# Altium schematic symbol library Adam home.SchLib: 216 symbols (part 2 of 2)
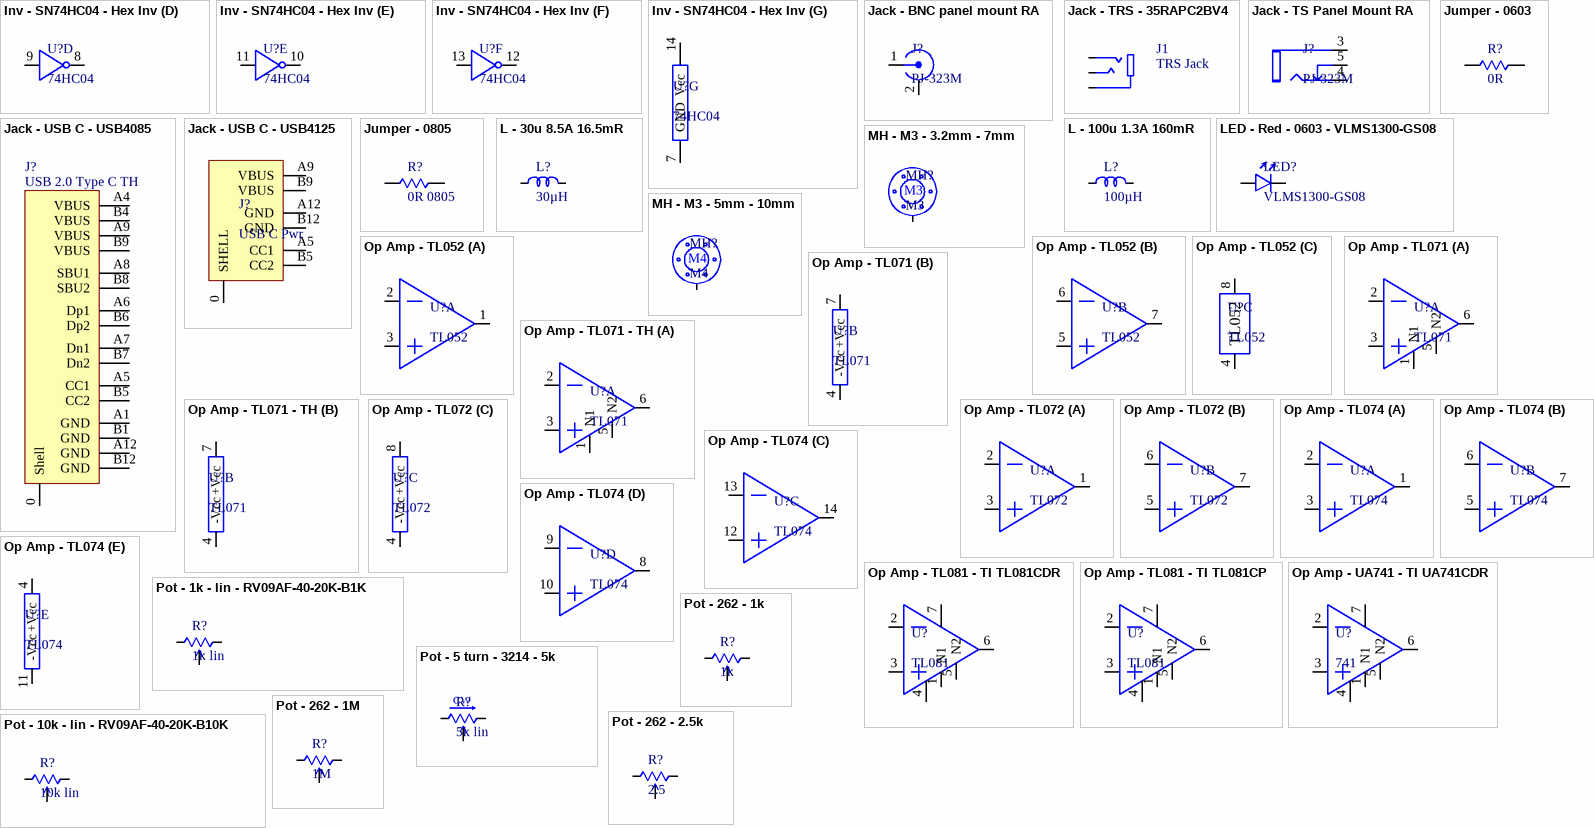
[diagram p7: symbols Inv - SN74HC04 - Hex Inv to Pot - 262 - 2.5k]

## Op Amp - TL071 - TH
designator U?, comment TL071
IC OPAMP JFET 3MHZ 8DIP; MFG: TI; MFG PN: TL071CP; Supplier: DigiKey; Supplier PN: 296-7186-5-ND; ComponentLink2Description: Datasheet; ComponentLink2URL: http://www.ti.com/lit/ds/symlink/tl071a.pdf; ComponentLink1Description: DigiKey; ComponentLink1URL: https://www.digikey.ca/en/products/detail/texas-instruments/TL071CP/378372
footprint DIP8 - SOCKET
part A pins: 1 N1, 2, 3, 5 N2, 6
part B pins: 4 -Vcc, 7 +Vcc

## Op Amp - TL072
designator U?, comment TL072
IC OPAMP JFET 3MHZ 8SOIC; MFG: TI; MFG PN: TL072CDR; Supplier: DigiKey; Supplier PN: 296-1282-1-ND; ComponentLink1Description: DigiKey; ComponentLink1URL: https://www.digikey.ca/en/products/detail/texas-instruments/TL072CDR/276925
footprint TI - D (R-PDSO-G8) (http://www.ti.com/lit/ml/mpds348/mpds348.pdf)
part A pins: 1, 2, 3
part B pins: 5, 6, 7
part C pins: 4 -Vcc, 8 +Vcc

## Op Amp - TL074
designator U?, comment TL074
IC OPAMP JFET 4 CIRCUIT 14SOIC; MFG: TI; MFG PN: TL074CDR; Supplier: DigiKey; Supplier PN: 296-1283-1-ND; ComponentLink1Description: DigiKey; ComponentLink1URL: https://www.digikey.ca/en/products/detail/texas-instruments/TL074CDR/276926
footprint TI - D (R-PDSO-G14)
part A pins: 1, 2, 3
part B pins: 5, 6, 7
part C pins: 12, 13, 14
part D pins: 8, 9, 10
part E pins: 4 +Vcc, 11 -Vcc

## Op Amp - TL081 - TI TL081CDR
designator U?, comment TL081
IC OPAMP JFET 3MHZ 8SOIC; MFG: TI; MFG PN: TL081CDR; Supplier: DigiKey; Supplier PN: 296-15001-1-ND; ComponentLink1Description: DigiKey; ComponentLink1URL: https://www.digikey.ca/en/products/detail/texas-instruments/TL081CDR/562841
pins: 1 N1, 2, 3, 4, 5 N2, 6, 7

## Op Amp - TL081 - TI TL081CP
designator U?, comment TL081
IC OPAMP JFET 3MHZ 8DIP; MFG: TI; MFG PN: TL081CP; Supplier: DigiKey; Supplier PN: 296-7203-5-ND; ComponentLink1Description: DigiKey; ComponentLink1URL: https://www.digikey.ca/en/products/detail/texas-instruments/TL081CP/383030
pins: 1 N1, 2, 3, 4, 5 N2, 6, 7

## Op Amp - UA741 - TI UA741CDR
designator U?, comment 741
IC OPAMP GP 1MHZ 8SOIC; MFG: TI; MFG PN: UA741CDR; Supplier: DigiKey; Supplier PN: 296-15051-1-ND; ComponentLink1Description: DigiKey; ComponentLink1URL: https://www.digikey.ca/en/products/detail/texas-instruments/UA741CDR/562828
footprint TI - D (R-PDSO-G8) (http://www.ti.com/lit/ml/mpds348/mpds348.pdf)
pins: 1 N1, 2, 3, 4, 5 N2, 6, 7

## Pot - 1k - lin - RV09AF-40-20K-B1K
designator R?, comment 1k lin
POT 1K OHM ?W PLASTIC LINEAR; MFG: ALPHA; MFG PN: RV09AF-40-20K-B1K; Supplier: Tayda; Supplier PN: A-1863; ComponentLink1Description: Tayda; ComponentLink1URL: https://www.taydaelectronics.com/1k-ohm-linear-taper-potentiometer-round-knurled-plastic-shaft-pcb-9mm.html
pins: 1, 2, 3

## Pot - 5 turn - 3214 - 5k
designator R?, comment 5k lin
TRIMMER 5K OHM 0.25W J LEAD TOP; MFG: Bourns Inc.; MFG PN: 3214W-1-502E; Supplier: DigiKey; Supplier PN: 3214W-502ECT-ND; ComponentLink1Description: DigiKey; ComponentLink1URL: https://www.digikey.ca/en/products/detail/bourns-inc/3214W-1-502E/248430; ComponentLink2Description: Datasheet; ComponentLink2URL: https://www.bourns.com/docs/Product-Datasheets/3214.pdf
footprint POT - Bourns - 3214W (3214W-502ECT-ND)
pins: 1, 2, 3
text: CW

## Pot - 10k - lin - RV09AF-40-20K-B10K
designator R?, comment 10k lin
POT 10K OHM ?W PLASTIC LINEAR; MFG: ALPHA; MFG PN: RV09AF-40-20K-B10K; Supplier: Tayda; Supplier PN: A-1850; ComponentLink1Description: Tayda; ComponentLink1URL: https://www.taydaelectronics.com/10k-ohm-linear-taper-potentiometer-round-knurled-plastic-shaft-pcb-9mm.html
pins: 1, 2, 3

## Pot - 262 - 1k
designator R?, comment 1k
TRIMMER 1K OHM 0.15W TH; MFG: CTS Electrocomponents; MFG PN: 262UR102B; Supplier: DigiKey; Supplier PN: 262UR102B-ND
footprint POT - CTS - 262 Series (CTS Electrocomponents)
pins: 1, 2, 3

## Pot - 262 - 1M
designator R?, comment 1M
TRIMMER 1M OHM 0.15W TH; MFG: CTS Electrocomponents; MFG PN: 262UR105B; Supplier: DigiKey; Supplier PN: 262UR105B-ND
footprint POT - CTS - 262 Series (CTS Electrocomponents)
pins: 1, 2, 3

## Pot - 262 - 2.5k
designator R?, comment 2.5
TRIMMER 2.5K OHM 0.15W TH; MFG: CTS Electrocomponents; MFG PN: 262UR252B; Supplier: DigiKey; Supplier PN: 262UR252B-ND
footprint POT - CTS - 262 Series (CTS Electrocomponents)
pins: 1, 2, 3

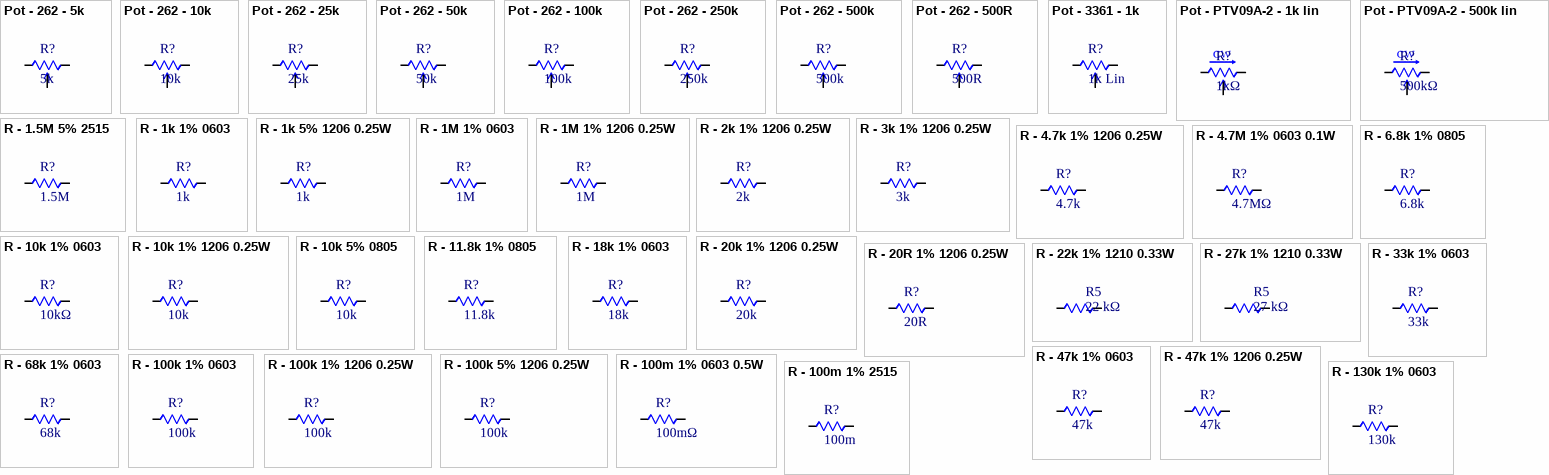
[diagram p4: symbols Pot - 262 - 5k to R - 130k 1% 0603]

## Pot - 262 - 5k
designator R?, comment 5k
TRIMMER 5K OHM 0.15W TH; MFG: CTS Electrocomponents; MFG PN: 262UR502B; Supplier: DigiKey; Supplier PN: 262UR502B-ND
footprint POT - CTS - 262 Series (CTS Electrocomponents)
pins: 1, 2, 3

## Pot - 262 - 10k
designator R?, comment 10k
TRIMMER 10K OHM 0.15W TH; MFG: CTS Electrocomponents; MFG PN: 262UR103B; Supplier: DigiKey; Supplier PN: 262UR103B-ND
footprint POT - CTS - 262 Series (CTS Electrocomponents)
pins: 1, 2, 3

## Pot - 262 - 25k
designator R?, comment 25k
TRIMMER 25K OHM 0.15W TH; MFG: CTS Electrocomponents; MFG PN: 262UR253B; Supplier: DigiKey; Supplier PN: 262UR253B-ND
footprint POT - CTS - 262 Series (CTS Electrocomponents)
pins: 1, 2, 3

## Pot - 262 - 50k
designator R?, comment 50k
TRIMMER 50K OHM 0.15W TH; MFG: CTS Electrocomponents; MFG PN: 262UR503B; Supplier: DigiKey; Supplier PN: 262UR503B-ND
footprint POT - CTS - 262 Series (CTS Electrocomponents)
pins: 1, 2, 3

## Pot - 262 - 100k
designator R?, comment 100k
TRIMMER 100K OHM 0.15W TH; MFG: CTS Electrocomponents; MFG PN: 262UR104B; Supplier: DigiKey; Supplier PN: 262UR104B-ND
footprint POT - CTS - 262 Series (CTS Electrocomponents)
pins: 1, 2, 3

## Pot - 262 - 250k
designator R?, comment 250k
TRIMMER 250K OHM 0.15W TH; MFG: CTS Electrocomponents; MFG PN: 262UR254B; Supplier: DigiKey; Supplier PN: 262UR254B-ND
footprint POT - CTS - 262 Series (CTS Electrocomponents)
pins: 1, 2, 3

## Pot - 262 - 500k
designator R?, comment 500k
TRIMMER 500K OHM 0.15W TH; MFG: CTS Electrocomponents; MFG PN: 262UR504B; Supplier: DigiKey; Supplier PN: 262UR504B-ND
footprint POT - CTS - 262 Series (CTS Electrocomponents)
pins: 1, 2, 3

## Pot - 262 - 500R
designator R?, comment 500R
TRIMMER 500 OHM 0.15W TH; MFG: CTS Electrocomponents; MFG PN: 262UR501B; Supplier: DigiKey; Supplier PN: 262UR501B-ND
footprint POT - CTS - 262 Series (CTS Electrocomponents)
pins: 1, 2, 3

## Pot - 3361 - 1k
designator R?, comment 1k Lin
TRIMMER 1K OHM 0.5W GW TOP ADJ; MFG: Bourns Inc.; MFG PN: 3361P-1-102GLF; ComponentLink1Description: DigiKey; ComponentLink1URL: https://www.digikey.ca/en/products/detail/bourns-inc/3361P-1-102GLF/1088367; ComponentLink2Description: Datasheet; ComponentLink2URL: https://www.bourns.com/docs/Product-Datasheets/3361.pdf; Supplier: DigiKey; Supplier PN: 3361P-102GLFCT-ND
footprint POT - 3361P Series
pins: 1, 2, 3

## Pot - PTV09A-2 - 1k lin
designator R?, comment 1kΩ
POT 1K OHM 1/20W CARBON LINEAR; MFG: Bourns Inc.; MFG PN: PTV09A-2020U-B102; Supplier: DigiKey; Supplier PN: PTV09A-2020U-B102-ND; ComponentLink2Description: Datasheet; ComponentLink2URL: https://www.mouser.ca/datasheet/2/54/ptv09-777818.pdf; ComponentLink1Description: DigiKey; ComponentLink1URL: https://www.digikey.ca/en/products/detail/bourns-inc/PTV09A-2020U-B102/7314961
pins: 1, 2, 3
text: CW

## Pot - PTV09A-2 - 500k lin
designator R?, comment 500kΩ
POT 500K OHM 1/20W CARBON LINEAR; MFG: Bourns Inc.; MFG PN: PTV09A-2020F-B504; Supplier: DigiKey; Supplier PN: PTV09A-2020F-B504-ND; ComponentLink2Description: Datasheet; ComponentLink2URL: https://www.mouser.ca/datasheet/2/54/ptv09-777818.pdf; ComponentLink1Description: DigiKey; ComponentLink1URL: https://www.digikey.ca/en/products/detail/bourns-inc/PTV09A-2020F-B504/6153481
pins: 1, 2, 3
text: CW

## R - 1.5M 5% 2515
designator R?, comment 1.5M
RES SMD 1.5M OHM 5% 1W 2512; MFG: Panasonic; MFG PN: ERJ-1TYJ155U; Supplier: DigiKey; Supplier PN: PT1.5MXCT-ND
pins: 1, 2

## R - 1k 1% 0603
designator R?, comment 1k
RES SMD 1K OHM 1% 1/10W 0603; MFG: Yageo; MFG PN: RC0603FR-071KL; Supplier: DigiKey; Supplier PN: 311-1.00KHRCT-ND
footprint R0603
pins: 1, 2

## R - 1k 5% 1206 0.25W
designator R?, comment 1k
RES SMD 1K OHM 5% 1/4W 1206; MFG: Yageo; MFG PN: RC1206JR-071KL; Supplier: DigiKey; Supplier PN: 311-1.0KERCT-ND
footprint R1206
pins: 1, 2

## R - 1M 1% 0603
designator R?, comment 1M
RES SMD 1M OHM 1% 1/10W 0603; MFG: Yageo; MFG PN: RC0603FR-071ML; Supplier: DigiKey; Supplier PN: 311-1.00MHRCT-ND
footprint R0603
pins: 1, 2

## R - 1M 1% 1206 0.25W
designator R?, comment 1M
RES SMD 1M OHM 1% 1/4W 1206; MFG: Yageo; MFG PN: RC1206FR-071ML; Supplier: DigiKey; Supplier PN: 311-1.00MFRCT-ND
footprint R1206
pins: 1, 2

## R - 2k 1% 1206 0.25W
designator R?, comment 2k
RES SMD 2K OHM 1% 1/4W 1206; MFG: Yageo; MFG PN: RC1206FR-072KL; Supplier: DigiKey; Supplier PN: 311-2.00KFRCT-ND
footprint R1206
pins: 1, 2

## R - 3k 1% 1206 0.25W
designator R?, comment 3k
RES SMD 3K OHM 1% 1/4W 1206; MFG: Yageo; MFG PN: RC1206FR-073KL; Supplier: DigiKey; Supplier PN: 311-3.00KFRCT-ND
footprint R1206
pins: 1, 2

## R - 4.7k 1% 1206 0.25W
designator R?, comment 4.7k
RES SMD 4.7K OHM 1% 1/4W 1206; MFG: Yageo; MFG PN: RC1206FR-074K7L; Supplier: DigiKey; Supplier PN: 311-4.70KFRCT-ND
footprint R1206
pins: 1, 2

## R - 4.7M 1% 0603 0.1W
designator R?, comment 4.7MΩ
RES 4.7M OHM 1% 1/10W 0603; MFG: YAGEO; MFG PN: RC0603FR-074M7L; Supplier: DigiKey; Supplier PN: 311-4.70MHRCT-ND
footprint R0603
pins: 1, 2

## R - 6.8k 1% 0805
designator R?, comment 6.8k
RES SMD 6.8K OHM 1% 1/8W 0805; MFG: Yageo; MFG PN: 311-6.80KCRCT-ND; Supplier: DigiKey; Supplier PN: 311-6.80KCRCT-ND
footprint R0805
pins: 1, 2

## R - 10k 1% 0603
designator R?, comment 10kΩ
RES 10K OHM 1% 1/10W 0603; MFG: Yageo; MFG PN: RC0603FR-0710KL; Supplier: DigiKey; Supplier PN: 311-10.0KHRCT-ND
footprint R0603
pins: 1, 2

## R - 10k 1% 1206 0.25W
designator R?, comment 10k
RES SMD 10K OHM 1% 1/4W 1206; MFG: Yageo; MFG PN: RC1206FR-0710KL; Supplier: DigiKey; Supplier PN: 311-10.0KFRCT-ND
footprint R1206
pins: 1, 2

## R - 10k 5% 0805
designator R?, comment 10k
RES SMD 10K OHM 5% 1/8W 0805; MFG: Yageo; MFG PN: RC0805JR-0710KL; Supplier: DigiKey; Supplier PN: 311-10KARCT-ND
footprint R0805
pins: 1, 2

## R - 11.8k 1% 0805
designator R?, comment 11.8k
RES SMD 11.8K OHM 1% 1/8W 0805; MFG: Yageo; MFG PN: RC0805FR-0711K8L; Supplier: DigiKey; Supplier PN: 311-11.8KCRCT-ND
footprint R0805
pins: 1, 2

## R - 18k 1% 0603
designator R?, comment 18k
RES SMD 18K OHM 1% 1/10W 0603; MFG: RC0603FR-0718KL; MFG PN: Yageo; Supplier: DigiKey; Supplier PN: 311-18.0KHRCT-ND
footprint R0603
pins: 1, 2

## R - 20k 1% 1206 0.25W
designator R?, comment 20k
RES SMD 20K OHM 1% 1/4W 1206; MFG: Yageo; MFG PN: RC1206FR-0720KL; Supplier: DigiKey; Supplier PN: 311-20.0KFRCT-ND
footprint R1206
pins: 1, 2

## R - 20R 1% 1206 0.25W
designator R?, comment 20R
RES SMD 20 OHM 1% 1/4W 1206; MFG: Yageo; MFG PN: RC1206FR-0720RL; Supplier: DigiKey; Supplier PN: 311-20.0FRCT-ND
footprint R1206
pins: 1, 2

## R - 22k 1% 1210 0.33W
designator R5, comment 22 kΩ
RES SMD 22K OHM 1% 1/3W 1210; MFG: Rohm Semi; MFG PN: KTR25JZPF2202; Supplier: DigiKey; Supplier PN: RHM1094CT-ND
pins: 1, 2

## R - 27k 1% 1210 0.33W
designator R5, comment 27 kΩ
RES SMD 27K OHM 1% 1/3W 1210; MFG: Rohm Semi; MFG PN: KTR25JZPF2702; Supplier: DigiKey; Supplier PN: RHM1106CT-ND
pins: 1, 2

## R - 33k 1% 0603
designator R?, comment 33k
RES SMD 33K OHM 1% 1/10W 0603; MFG: RC0603FR-0733KL; MFG PN: Yageo; Supplier: DigiKey; Supplier PN: 311-33.0KHRCT-ND
footprint R0603
pins: 1, 2

## R - 47k 1% 0603
designator R?, comment 47k
RES SMD 47K OHM 1% 1/10W 0603; MFG: Yageo; MFG PN: RC0603FR-0747KL; Supplier: DigiKey; Supplier PN: 311-47.0KHRCT-ND
footprint R0603
pins: 1, 2

## R - 47k 1% 1206 0.25W
designator R?, comment 47k
RES SMD 47K OHM 1% 1/4W 1206; MFG: Yageo; MFG PN: RC1206FR-0747KL; Supplier: DigiKey; Supplier PN: 311-47.0KFRCT-ND
footprint R1206
pins: 1, 2

## R - 68k 1% 0603
designator R?, comment 68k
RES SMD 68K OHM 1% 1/10W 0603; MFG: RC0603FR-0768KL; MFG PN: Yageo; Supplier: DigiKey; Supplier PN: 311-68.0KHRCT-ND; ComponentLink1Description: DigiKey; ComponentLink1URL: https://www.digikey.ca/en/products/detail/yageo/RC0603FR-0768KL/727352
footprint R0603
pins: 1, 2

## R - 100k 1% 0603
designator R?, comment 100k
RES SMD 100K OHM 1% 1/10W 0603; MFG: Yageo; MFG PN: RC0603FR-07100KL; Supplier: DigiKey; Supplier PN: 311-100KHRCT-ND
footprint R0603
pins: 1, 2

## R - 100k 1% 1206 0.25W
designator R?, comment 100k
RES SMD 100K OHM 1% 1/4W 1206; MFG: Yageo; MFG PN: RC1206FR-07100KL; Supplier: DigiKey; Supplier PN: 311-100KFRCT-ND
footprint R1206
pins: 1, 2

## R - 100k 5% 1206 0.25W
designator R?, comment 100k
RES SMD 100K OHM 5% 1/4W 1206; MFG: Yageo; MFG PN: RC1206JR-07100KL; Supplier: DigiKey; Supplier PN: 311-100KERCT-ND
footprint R1206
pins: 1, 2

## R - 100m 1% 0603 0.5W
designator R?, comment 100mΩ
RES 0.1 OHM 1% 1/2W 0805; MFG: Panasonic; MFG PN: ERJ-6DSFR10V; Supplier: DigiKey; Supplier PN: P19308CT-ND
footprint R0603
pins: 1, 2

## R - 100m 1% 2515
designator R?, comment 100m
RES 0.1 OHM 1% 1W 2512; MFG: Panasonic; MFG PN: ERJ-L1WKF10CU; Supplier: DigiKey; Supplier PN: P100MCT-ND
footprint R2512
pins: 1, 2

## R - 130k 1% 0603
designator R?, comment 130k
RES SMD 130K OHM 1% 1/10W 0603; MFG: Yageo; MFG PN: RC0603FR-07130KL; Supplier: DigiKey; Supplier PN: 311-130KHRCT-ND
footprint R0603
pins: 1, 2

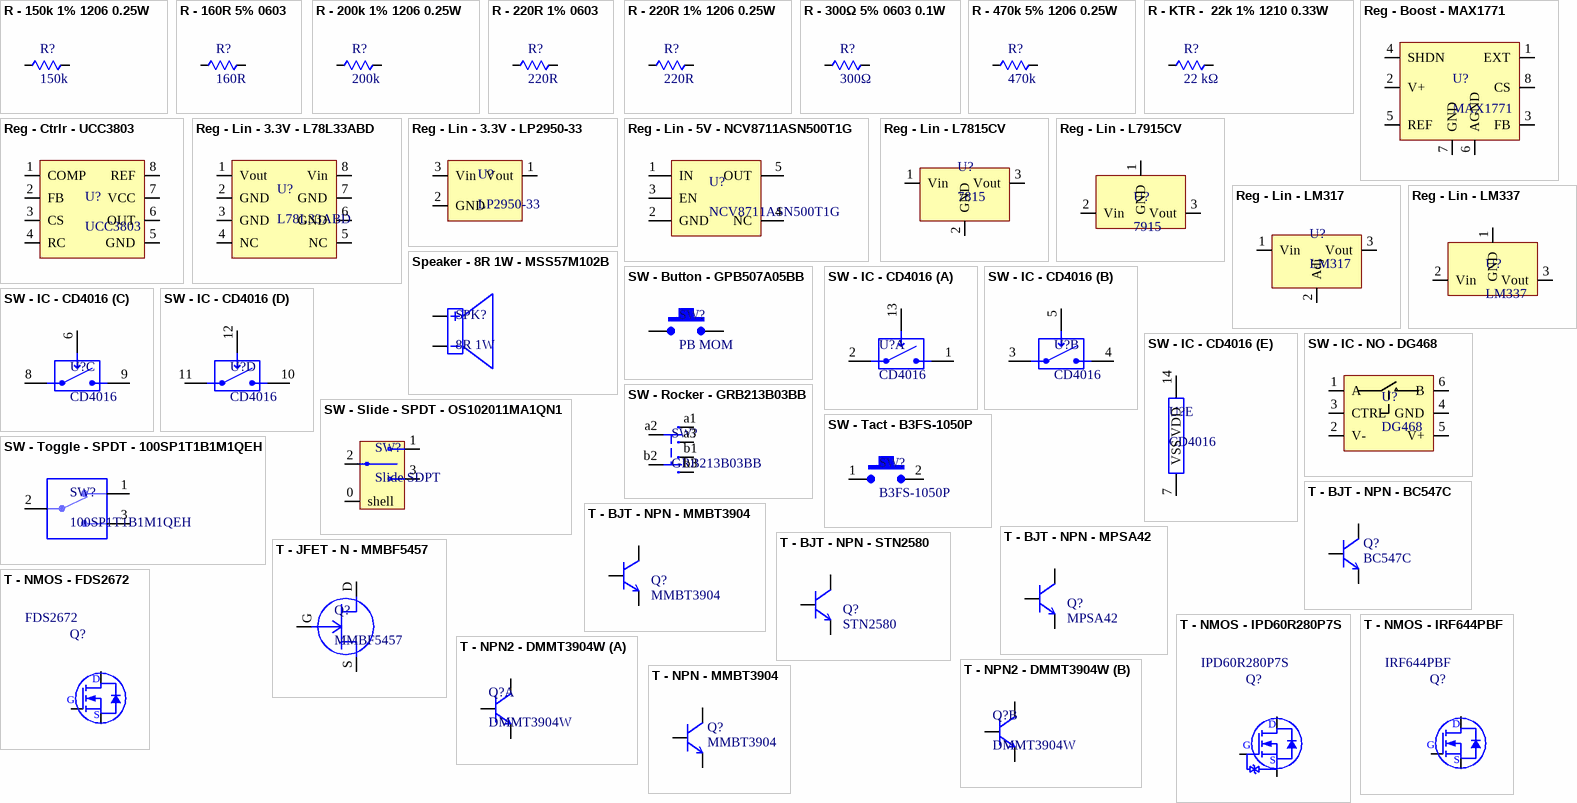
[diagram p5: symbols R - 150k 1% 1206 0.25W to T - NPN - MMBT3904]

## R - 150k 1% 1206 0.25W
designator R?, comment 150k
RES SMD 150K OHM 1% 1/4W 1206; MFG: Yageo; MFG PN: RC1206FR-07150KL; Supplier: DigiKey; Supplier PN: 311-150KFRCT-ND
footprint R1206
pins: 1, 2

## R - 160R 5% 0603
designator R?, comment 160R
RES SMD 160 OHM 5% 1/10W 0603; MFG: Yageo; MFG PN: RC0603JR-07160RL; Supplier: DigiKey; Supplier PN: 311-160GRCT-ND
footprint R0603
pins: 1, 2

## R - 200k 1% 1206 0.25W
designator R?, comment 200k
RES SMD 200K OHM 1% 1/4W 1206; MFG: Yageo; MFG PN: RC1206FR-07200KL; Supplier: DigiKey; Supplier PN: 311-200KFRCT-ND
footprint R1206
pins: 1, 2

## R - 220R 1% 0603
designator R?, comment 220R
RES SMD 220 OHM 1% 1/10W 0603; MFG: Yageo; MFG PN: RC0603FR-07220RL; Supplier: DigiKey; Supplier PN: 311-220HRCT-ND
footprint R0603
pins: 1, 2

## R - 220R 1% 1206 0.25W
designator R?, comment 220R
RES SMD 220 OHM 1% 1/4W 1206; MFG: Yageo; MFG PN: RC1206FR-07220RL; Supplier: DigiKey; Supplier PN: 311-220FRCT-ND
footprint R1206
pins: 1, 2

## R - 300Ω 5% 0603 0.1W
designator R?, comment 300Ω
RES 300 OHM 5% 1/10W 0603; MFG: YAGEO; MFG PN: RC0603JR-07300RL; Supplier: DigiKey; Supplier PN: 311-300GRCT-ND
footprint R0603
pins: 1, 2

## R - 470k 5% 1206 0.25W
designator R?, comment 470k
RES SMD 470K OHM 5% 1/4W 1206; MFG: Yageo; MFG PN: RC1206JR-07470KL; Supplier: DigiKey; Supplier PN: 311-470KERCT-ND
footprint R1206
pins: 1, 2

## R - KTR -  22k 1% 1210 0.33W
designator R?, comment 22 kΩ
RES SMD 22K OHM 1% 1/3W 1210; MFG: Rohm Semi; MFG PN: KTR25JZPF2202; Supplier: DigiKey; Supplier PN: RHM1094CT-ND; ComponentLink1Description: DigiKey; ComponentLink1URL: https://www.digikey.ca/en/products/detail/rohm-semiconductor/KTR25JZPF2202/4052781
pins: 1, 2

## Reg - Boost - MAX1771
designator U?, comment MAX1771
IC REG CTRLR BST/BUCK-BST 8SOIC; MFG: Maxim Integrated; MFG PN: MAX1771ESA+; Supplier: DigiKey; Supplier PN: MAX1771ESA+-ND; ComponentLink1Description: DigiKey; ComponentLink1URL: https://www.digikey.ca/en/products/detail/analog-devices-inc-maxim-integrated/MAX1771ESA/947783
pins: 1 EXT, 2 V+, 3 FB, 4 SHDN, 5 REF, 6 AGND, 7 GND, 8 CS

## Reg - Ctrlr - UCC3803
designator U?, comment UCC3803
IC REG CTRLR MULT TOPOLOGY 8SOIC; MFG: TI; MFG PN: UCC3803D; Supplier: DigiKey; Supplier PN: 296-12195-5-ND; ComponentLink1Description: DigiKey; ComponentLink1URL: https://www.digikey.ca/en/products/detail/texas-instruments/UCC3803D/341204
pins: 1 COMP, 2 FB, 3 CS, 4 RC, 5 GND, 6 OUT, 7 VCC, 8 REF

## Reg - Lin - 3.3V - L78L33ABD
designator U?, comment L78L33ABD
IC REG LINEAR 3.3V 100MA 8SO; MFG: STMicro; MFG PN: L78L33ABD-TR; Supplier: DigiKey; Supplier PN: 497-7285-1-ND; ComponentLink1Description: DigiKey; ComponentLink1URL: https://www.digikey.ca/en/products/detail/stmicroelectronics/L78L33ABD-TR/1038301
pins: 1 Vout, 2 GND, 3 GND, 4 NC, 5 NC, 6 GND, 7 GND, 8 Vin

## Reg - Lin - 3.3V - LP2950-33
designator U?, comment LP2950-33
IC REG LINEAR 3.3V 100MA TO92-3; MFG: TI; MFG PN: LP2950-33LPRE3; Supplier: DigiKey; Supplier PN: 296-31455-1-ND; ComponentLink1Description: DigiKey; ComponentLink1URL: https://www.digikey.ca/en/products/detail/texas-instruments/LP2950-33LPRE3/1510728
pins: 1 Vout, 2 GND, 3 Vin

## Reg - Lin - 5V - NCV8711ASN500T1G
designator U?, comment NCV8711ASN500T1G
IC REG LINEAR 5V 100MA 5TSOP; MFG: onsemi; MFG PN: NCV8711ASN500T1G; Supplier: DigiKey; Supplier PN: 488-NCV8711ASN500T1GCT-ND; ComponentLink1Description: DigiKey; ComponentLink1URL: https://www.digikey.ca/en/products/detail/onsemi/NCV8711ASN500T1G/13145354
footprint TSOT 23 5
pins: 1 IN, 2 GND, 3 EN, 4 NC, 5 OUT

## Reg - Lin - L7815CV
designator U?, comment 7815
IC REG LDO 15V 1.5A TO220AB; MFG: STMicroelectronics; MFG PN: L7815CV; Supplier: DigiKey; Supplier PN: 497-1454-5-ND; ComponentLink1Description: DigiKey; ComponentLink1URL: https://www.digikey.ca/en/products/detail/stmicroelectronics/L7815CV/585975
pins: 1 Vin, 2 GND, 3 Vout

## Reg - Lin - L7915CV
designator U?, comment 7915
IC REG LDO -15V 1.5A TO220AB; MFG: STMicroelectronics; MFG PN: L7915CV; Supplier: DigiKey; Supplier PN: 497-1478-5-ND; ComponentLink1Description: DigiKey; ComponentLink1URL: https://www.digikey.ca/en/products/detail/stmicroelectronics/L7915CV/585999
pins: 1 GND, 2 Vin, 3 Vout

## Reg - Lin - LM317
designator U?, comment LM317
IC REG LINEAR ADJ 0.5A TO252-3; MFG: TI; MFG PN: LM317AMDTX/NOPB; Supplier: DigiKey; Supplier PN: LM317AMDTX/NOPBCT-ND; ComponentLink1Description: DigiKey; ComponentLink1URL: https://www.digikey.ca/en/products/detail/texas-instruments/LM317AMDTX-NOPB/1871211
pins: 1 Vin, 2 Adj, 3 Vout

## Reg - Lin - LM337
designator U?, comment LM337
IC REG LINEAR ADJ 1.5A TO252; MFG: TI; MFG PN: LM337KVURG3; Supplier: DigiKey; Supplier PN: 296-21578-1-ND; ComponentLink1Description: DigiKey; ComponentLink1URL: https://www.digikey.ca/en/products/detail/texas-instruments/LM337KVURG3/1493971
pins: 1 GND, 2 Vin, 3 Vout

## Speaker - 8R 1W - MSS57M102B
designator SPK?, comment 8R 1W
SPEAKER 8OHM 1W TOP PORT 92DB; MFG: MICROSONIC; MFG PN: MSS57M102B; Supplier: Tayda; Supplier PN: A-4117; ComponentLink1Description: Tayda; ComponentLink1URL: https://www.taydaelectronics.com/mylar-speaker-8-ohm-1w.html
footprint Speaker - MSS57M102B (MICROSONIC - MSS57M102B)
pins: 1 +, 2 -

## SW - Button - GPB507A05BB
designator SW?, comment PB MOM
SWITCH PUSH SPST-NO 6A 125V; MFG: CW Industries; MFG PN: GPB507A05BB; Supplier: DigiKey; Supplier PN: SW636-ND; ComponentLink1Description: DigiKey; ComponentLink1URL: https://www.digikey.ca/en/products/detail/cw-industries/GPB507A05BB/2235508
pins: 1, 2

## SW - IC - CD4016
designator U?, comment CD4016
IC QUAD BILATERAL SWITCH 14SOIC; MFG: TI; MFG PN: CD4016BM96; Supplier: DigiKey; Supplier PN: 296-31489-1-ND; ComponentLink1Description: DigiKey; ComponentLink1URL: https://www.digikey.ca/en/products/detail/texas-instruments/CD4016BM96/1690772
footprint TI - D (R-PDSO-G14)
part A pins: 1, 2, 13
part B pins: 3, 4, 5
part C pins: 6, 8, 9
part D pins: 10, 11, 12
part E pins: 7 VSS, 14 VDD

## SW - IC - NO - DG468
designator U?, comment DG468
IC SWITCH SPST NO 6TSOP; MFG: Vishay Siliconix; MFG PN: DG468DV-T1-E3; Supplier: DigiKey; Supplier PN: DG468DV-T1-E3CT-ND; ComponentLink1Description: DigiKey; ComponentLink1URL: https://www.digikey.ca/en/products/detail/vishay-siliconix/DG468DV-T1-E3/1850022
footprint TSOP 6 - Vishay (DG468DV-T1-E3CT-ND)
pins: 1 A, 2 V-, 3 CTRL, 4 GND, 5 V+, 6 B

## SW - Rocker - GRB213B03BB
designator SW?, comment GRB213B03BB
SWITCH ROCKER DPDT 6A 125V; MFG: CW Industries; MFG PN: GRB213B03BB; Supplier: DigiKey; Supplier PN: SW653-ND; ComponentLink1Description: DigiKey; ComponentLink1URL: https://www.digikey.ca/en/products/detail/cw-industries/GRB213B03BB/2235525
pins: a1, a2, a3, b1, b2, b3

## SW - Slide - SPDT - OS102011MA1QN1
designator SW?, comment Slide SDPT
SWITCH SLIDE SPDT 100MA 12V; MFG PN: OS102011MA1QN1; MFG: C&K; Supplier: DigiKey; Supplier PN: CKN9559-ND; ComponentLink1Description: DigiKey; ComponentLink1URL: https://www.digikey.ca/en/products/detail/c-k/OS102011MA1QN1/1981430
footprint SW - OS102011MA1QN1 (CKN9559-ND)
pins: 0 shell, 1, 2, 3

## SW - Tact - B3FS-1050P
designator SW?, comment B3FS-1050P
SWITCH TACTILE SPST-NO 0.05A 24V; MFG: Omron Electronics Inc-EMC Div; ComponentLink1Description: DigiKey; ComponentLink1URL: https://www.digikey.ca/en/products/detail/gct/USB4125-GF-A/13547388; ComponentLink2Description: Datasheet; ComponentLink2URL: https://omronfs.omron.com/en_US/ecb/products/pdf/en-b3fs.pdf; MFG PN: B3FS-1050P; Supplier: DigiKey; Supplier PN: Z5350CT-ND
footprint SW - tact - B3FS-1050P (Footprint not found)
pins: 1, 2

## SW - Toggle - SPDT - 100SP1T1B1M1QEH
designator SW?, comment 100SP1T1B1M1QEH
SWITCH TOGGLE SPDT 5A 120V; MFG: E-Switch; MFG PN: 100SP1T1B1M1QEH; Supplier: DigiKey; Supplier PN: EG2350-ND; ComponentLink1Description: DigiKey; ComponentLink1URL: https://www.digikey.ca/en/products/detail/e-switch/100SP1T1B1M1QEH/378819; ComponentLink2Description: Datasheet; ComponentLink2URL: https://sten-eswitch-13110800-production.s3.amazonaws.com/system/asset/product_line/data_sheet/129/100.pdf
footprint SW - 100SP1T1B1M1QEH
pins: 1, 2, 3

## T - BJT - NPN - BC547C
designator Q?, comment BC547C
TRANS NPN 45V 0.1A TO-92; MFG: ON Semi; MFG PN: BC547CTA; Supplier: DigiKey; Supplier PN: BC547CTACT-ND; ComponentLink2Description: Datasheet; ComponentLink2URL: https://www.fairchildsemi.com/datasheets/BC/BC546.pdf; ComponentLink1Description: DigiKey; ComponentLink1URL: https://www.digikey.ca/en/products/detail/onsemi/BC547CTA/975544
pins: 1 C, 2 B, 3 E

## T - BJT - NPN - MMBT3904
designator Q?, comment MMBT3904
TRANS NPN 40V 0.2A SOT23; MFG: ON Semi; MFG PN: MMBT3904LT1G; Supplier: DigiKey; Supplier PN: MMBT3904LT1GOSCT-ND; ComponentLink1Description: DigiKey; ComponentLink1URL: https://www.digikey.ca/en/products/detail/onsemi/MMBT3904LT1G/919601
pins: 1 B, 2 E, 3 C

## T - BJT - NPN - MPSA42
designator Q?, comment MPSA42
TRANS NPN 300V 0.625A TO-92; MFG: Micro Commercial Co; MFG PN: MPSA42-AP; Supplier: DigiKey; Supplier PN: MPSA42-APMSCT-ND; ComponentLink1Description: DigiKey; ComponentLink1URL: https://www.digikey.ca/en/products/detail/micro-commercial-co/MPSA42-AP/5224309
pins: 1 C, 2 B, 3 E

## T - BJT - NPN - STN2580
designator Q?, comment STN2580
TRANS NPN 400V 1A SOT-223; MFG: STMicroelectronics; MFG PN: STN2580; Supplier: DigiKey; Supplier PN: 497-13536-1-ND; ComponentLink1Description: DigiKey; ComponentLink1URL: https://www.digikey.ca/en/products/detail/stmicroelectronics/STN2580/3874239
footprint SOT-223 - ST (497-13536-1-ND)
pins: 1 B, 2 C, 3 E

## T - JFET - N - MMBF5457
designator Q?, comment MMBF5457
JFET N-CH 25V 350MW SOT23; MFG: ON Semi; MFG PN: MMBF5457; Supplier: DigiKey; Supplier PN: MMBF5457CT-ND; ComponentLink1Description: DigiKey; ComponentLink1URL: https://www.digikey.ca/en/products/detail/onsemi/MMBF5457/1049160
pins: 1 D, 2 S, 3 G

## T - NMOS - FDS2672
designator Q?, comment FDS2672
MOSFET N-CH 200V 3.9A 8-SOIC; MFG: ON Semi; MFG PN: FDS2672; Supplier: DigiKey; Supplier PN: FDS2672CT-ND; ComponentLink1Description: DigiKey; ComponentLink1URL: https://www.digikey.ca/en/products/detail/onsemi/FDS2672/1217881
pins: 1 G, 2 S, 3 D

## T - NMOS - IPD60R280P7S
designator Q?, comment IPD60R280P7S
MOSFET N-CH 600V 12A TO252-3; MFG: Infineon Technologies; MFG PN: IPD60R280P7SAUMA1; Supplier: DigiKey; Supplier PN: IPD60R280P7SAUMA1CT-ND; ComponentLink1Description: DigiKey; ComponentLink1URL: https://www.digikey.ca/en/products/detail/infineon-technologies/IPD60R280P7SAUMA1/7428132
footprint TO-252-3 - infineon (IPD60R280P7SAUMA1CT-ND)
pins: 1 G, 2 D, 3 S

## T - NMOS - IRF644PBF
designator Q?, comment IRF644PBF
MOSFET N-CH 250V 14A TO-220AB; MFG: Vishay Siliconix; MFG PN: IRF644PBF; Supplier: DigiKey; Supplier PN: IRF644PBF-ND; ComponentLink1Description: DigiKey; ComponentLink1URL: https://www.digikey.ca/en/products/detail/vishay-siliconix/IRF644PBF/812069
pins: 1 G, 2 S, 3 D

## T - NPN2 - DMMT3904W
designator Q?, comment DMMT3904W
TRANS 2NPN 40V 0.2A SOT363; MFG: Diodes Inc.; MFG PN: DMMT3904W-7-F; Supplier: DigiKey; Supplier PN: DMMT3904W-FDICT-ND; ComponentLink1Description: DigiKey; ComponentLink1URL: https://www.digikey.ca/en/products/detail/diodes-incorporated/DMMT3904W-7-F/717759
part A pins: 1, 5, 6
part B pins: 2, 3, 4

## T - NPN - MMBT3904
designator Q?, comment MMBT3904
TRANS NPN 40V 0.2A SOT23; MFG: Micro Commercial; MFG PN: MMBT3904-TP; Supplier: DigiKey; Supplier PN: MMBT3904TPMSCT-ND; ComponentLink1Description: DigiKey; ComponentLink1URL: https://www.digikey.ca/en/products/detail/micro-commercial-co/MMBT3904-TP/717280
pins: 1, 2, 3

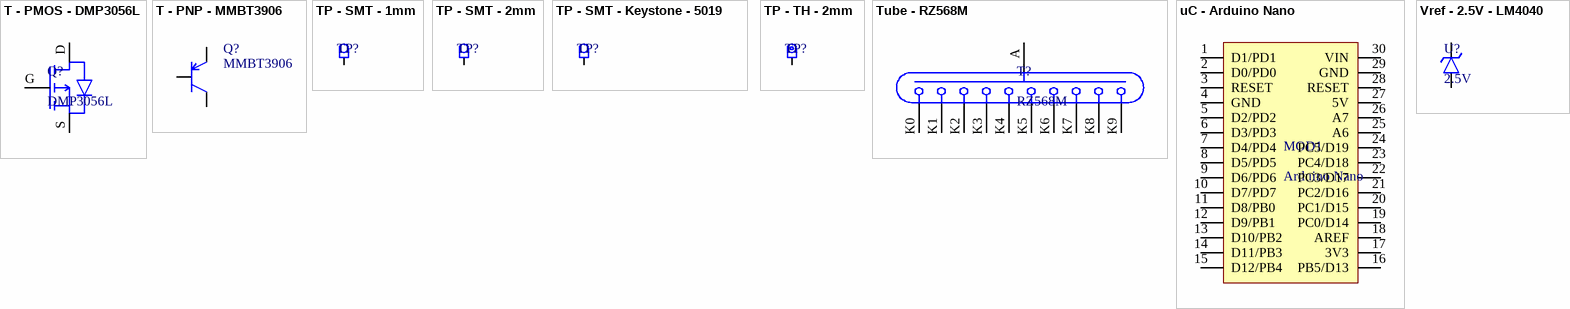
[diagram p6: symbols T - PMOS - DMP3056L to Vref - 2.5V - LM4040]

## T - PMOS - DMP3056L
designator Q?, comment DMP3056L
MOSFET P-CH 30V 4.3A SOT23; MFG: Diodes Inc.; MFG PN: DMP3056L-7; ComponentLink1URL: https://www.digikey.ca/en/products/detail/diodes-incorporated/DMP3056L-7/5126843; Supplier: DigiKey; Supplier PN: DMP3056L-7DICT-ND; ComponentLink1Description: DigiKey
pins: D, G, S

## T - PNP - MMBT3906
designator Q?, comment MMBT3906
TRANS PNP 40V 0.2A SOT23; MFG: Micro Commercial Co; MFG PN: MMBT3906-TP; Supplier: DigiKey; Supplier PN: MMBT3906-TPTR-ND; ComponentLink1Description: DigiKey; ComponentLink1URL: https://www.digikey.ca/en/products/detail/micro-commercial-co/MMBT3906-TP/819631
pins: 1, 2, 3

## TP - SMT - 1mm
designator TP?  (value not drawn)  (no BOM)
footprint TP - SMT - 1.0MM
pins: 1

## TP - SMT - 2mm
designator TP?  (value not drawn)  (no BOM)
footprint TP - SMT - 2.0MM
pins: 1

## TP - SMT - Keystone - 5019
designator TP?, comment 5019  (value not drawn)
PC TEST POINT MINIATURE; MFG: Keystone Electronics; MFG PN: 5019; Supplier: DigiKey; Supplier PN: 36-5019CT-ND; ComponentLink1Description: DigiKey; ComponentLink1URL: https://www.digikey.ca/en/products/detail/keystone-electronics/5019/3907343
footprint TP - SMT - Keystone - 5019 (36-5019CT-ND)
pins: 1

## TP - TH - 2mm
designator TP?  (value not drawn)  (no BOM)
footprint TP - TH - 2.0mm
pins: 1

## Tube - RZ568M
designator T?, comment RZ568M
Nixie Tube - Heart; MFG: Dalibor Farny; MFG PN: Custom; Supplier: Dalibor Farny; Supplier PN: Custom
footprint Socket - R Z568M
pins: A, K0, K1, K2, K3, K4, K5, K6, K7, K8, K9

## uC - Arduino Nano
designator MOD1, comment Arduino Nano
footprint uC - Arduino Nano
pins: 1 D1/PD1, 2 D0/PD0, 3 RESET, 4 GND, 5 D2/PD2, 6 D3/PD3, 7 D4/PD4, 8 D5/PD5, 9 D6/PD6, 10 D7/PD7, 11 D8/PB0, 12 D9/PB1, 13 D10/PB2, 14 D11/PB3, 15 D12/PB4, 16 PB5/D13, 17 3V3, 18 AREF, 19 PC0/D14, 20 PC1/D15, 21 PC2/D16, 22 PC3/D17, 23 PC4/D18, 24 PC5/D19, 25 A6, 26 A7, 27 5V, 28 RESET, 29 GND, 30 VIN

## Vref - 2.5V - LM4040
designator U?, comment 2.5V
IC VREF SHUNT 0.5% SOT23-3; MFG: Microchip Technology; MFG PN: LM4040CYM3-2.5-TR; Supplier: DigiKey; Supplier PN: 576-1046-1-ND; ComponentLink1Description: DigiKey; ComponentLink1URL: https://www.digikey.ca/en/products/detail/microchip-technology/LM4040CYM3-2-5-TR/771515
pins: 1, 2